# Altium footprint library LED Indication.PcbLib: 11 footprints
Each footprint in its own frame and in the unit in brackets; x right, y up, seen from the top. Pads: shape width x height; smd on the part's side, far side on the other; paste and mask are expansions set on the pad; w line width, h text height; cw(c..) or ccw(c..) is an arc to the next point about the centre after c.
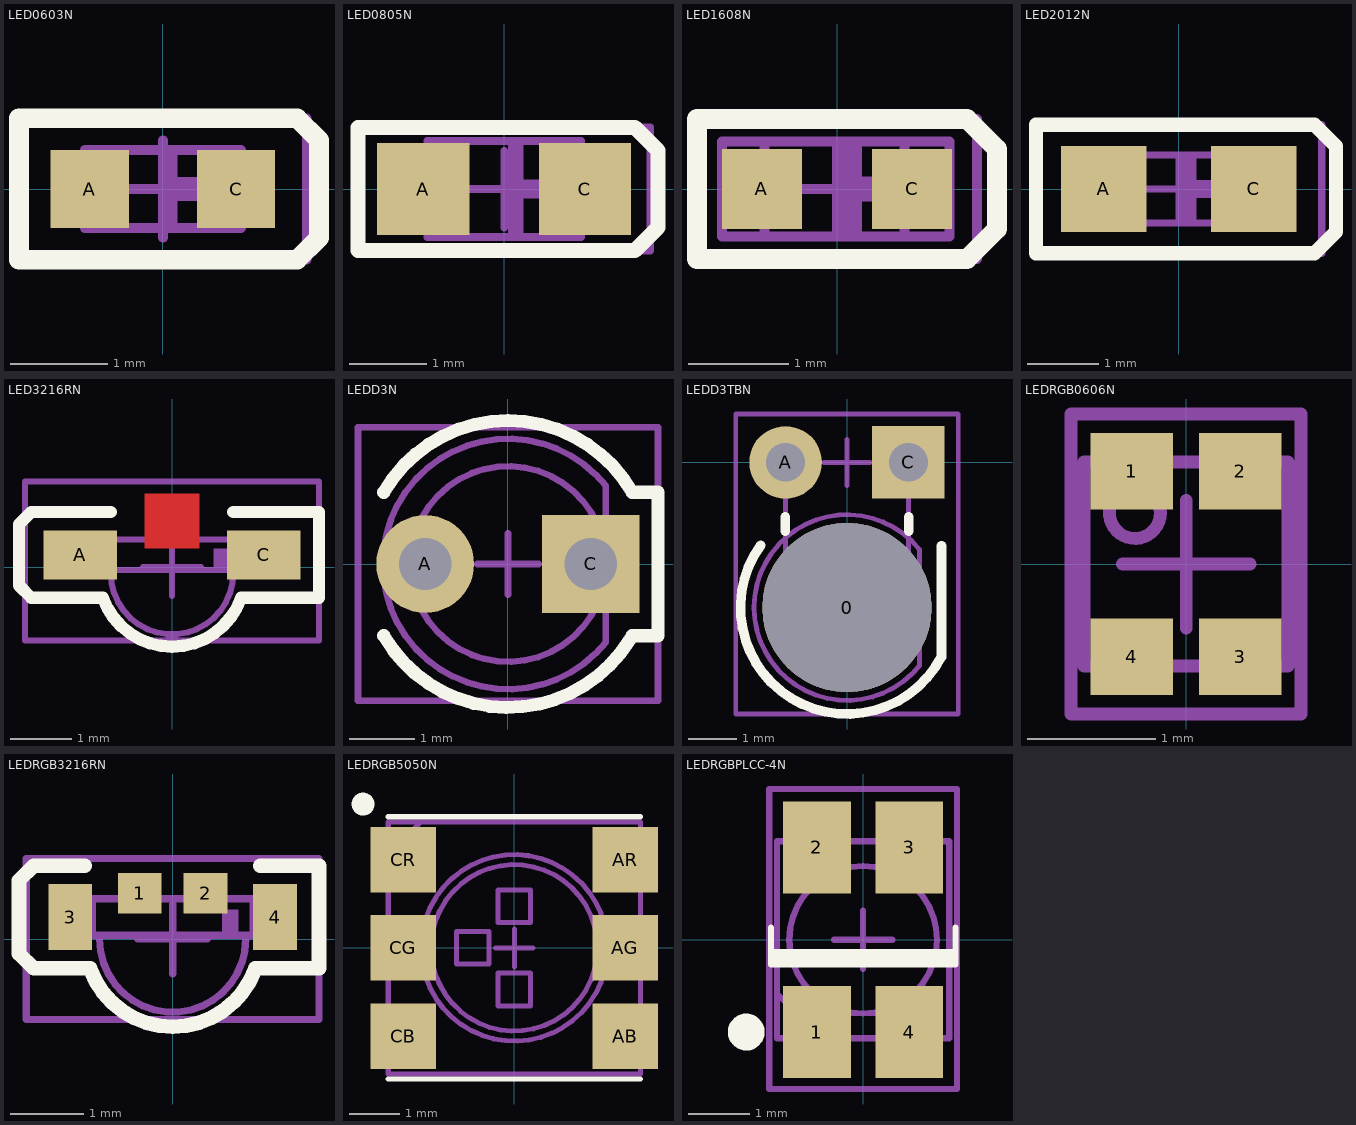
[diagram p0: the footprints below, top view; thin cyan lines are the x and y axes]

## LED0603N [mm]
height 1
pads (2):
  rect 0.8x0.8 smd: A(-0.75,0) C(0.75,0)
Top Overlay:
  lines w0.2: -1.475,-0.725 -1.475,0.725 1.375,0.725 1.6,0.5 1.6,-0.5 1.375,-0.725 -1.475,-0.725
Top Package:
  region: 0.15,0.425 -0.05,0.425 -0.05,-0.425 0.15,-0.425
  region: 0.375,0.125 0.15,0.125 0.15,-0.125 0.375,-0.125
  lines w0.1: -0.525,-0.4 -0.525,0.4 ; 0.525,-0.4 0.525,0.4 ; -0.8,-0.4 0.8,-0.4 0.8,0.4 -0.8,0.4 -0.8,-0.4
Top Border:
  lines w0.1: -0.498,-0.001 0.502,-0.001 ; 0.002,-0.501 0.002,0.499 ; -1.475,-0.725 1.475,-0.725 1.475,0.725 -1.475,0.725 -1.475,-0.725
3D body "User Library-LED SMD0805.stp": height 0.85, standoff 0.01, extent -1.031,-0.45 1.031,0.456

## LED0805N [mm]
height 1
pads (2):
  rect 1.2x1.2 smd: A(-1.05,0) C(1.05,0)
Top Overlay:
  lines w0.2: -1.9,-0.8 -1.9,0.8 1.7,0.8 2,0.5 2,-0.5 1.7,-0.8 -1.9,-0.8
Top Package:
  region: 0.475,0.125 0.25,0.125 0.25,-0.125 0.475,-0.125
  region: 0.25,0.625 0.05,0.625 0.05,-0.625 0.25,-0.625
  lines w0.1: -0.625,-0.625 -0.625,0.625 ; 0.675,-0.625 0.675,0.625 ; -1,-0.625 1,-0.625 1,0.625 -1,0.625 -1,-0.625
Top Border:
  lines w0.1: -0.498,-0.001 0.502,-0.001 ; 0.002,-0.501 0.002,0.499 ; -1.9,-0.8 1.9,-0.8 1.9,0.8 -1.9,0.8 -1.9,-0.8
3D body "User Library-LED SMD0805.step": height 0.85, standoff 0.01, extent -1.041,-0.436 1.021,0.47

## LED1608N [mm] "LED Indication, Body 1.6x0.8mm"
height 0.9
pads (2):
  rect 0.8x0.8 smd: A(-0.75,0) C(0.75,0)
Top Overlay:
  lines w0.2: -1.4,-0.7 -1.4,0.7 1.3,0.7 1.6,0.4 1.6,-0.4 1.3,-0.7 -1.4,-0.7
Top Package:
  region: 0.25,0.45 0.05,0.45 0.05,-0.475 0.25,-0.475
  region: 0.475,0.125 0.25,0.125 0.25,-0.125 0.475,-0.125
  lines w0.1: -0.725,-0.475 -0.725,0.475 ; 0.675,-0.475 0.675,0.475 ; -1.15,-0.475 -1.15,0.475 1.125,0.475 1.125,-0.475 -1.15,-0.475
Top Border:
  lines w0.1: -0.475,0 0.475,0 ; 0,-0.475 0,0.475 ; -1.4,-0.7 -1.4,0.7 1.4,0.7 1.4,-0.7 -1.4,-0.7
3D body "LED SMD0603.step": height 0.68, standoff 0, extent -0.808,-0.368 0.842,0.357

## LED2012N [mm] "LED Indication, Body 2.0x1.2mm, Green color"
height 0.9
pads (2):
  rect 1.2x1.2 smd: A(-1.05,0) C(1.05,0)
Top Overlay:
  lines w0.2: -2,-0.9 -2,0.9 1.9,0.9 2.2,0.6 2.2,-0.6 1.9,-0.9 -2,-0.9
Top Package:
  region: 0.25,0.45 0.05,0.45 0.05,-0.475 0.25,-0.475
  region: 0.475,0.125 0.25,0.125 0.25,-0.125 0.475,-0.125
  lines w0.1: -0.725,-0.475 -0.725,0.475 ; 0.675,-0.475 0.675,0.475 ; -1.15,-0.475 -1.15,0.475 1.125,0.475 1.125,-0.475 -1.15,-0.475
Top Border:
  lines w0.1: -0.475,0 0.475,0 ; 0,-0.475 0,0.475 ; -2,-0.9 -2,0.9 2,0.9 2,-0.9 -2,-0.9
3D body "LED2012.step": height 0.85, standoff 0.01, extent -1.031,-0.456 1.031,0.45

## LED3216RN [mm] "LED Indication, Body 3.2x1.6mm, Right Angle"
height 1
pads (2):
  rect 1.2x0.8 smd: A(-1.5,0.2) C(1.5,0.2)
Top Layer:
  rectangle: -0.45,0.3 0.45,1.2
Top Overlay:
  lines w0.2: -1.128,-0.51 ccw(c0,-0.1) 1.128,-0.51 ; -1.128,-0.5 -2.3,-0.5 -2.5,-0.3 -2.5,0.7 -2.3,0.9 -1,0.9 ; 1,0.9 2.4,0.9 2.4,-0.5 1.128,-0.5
Top Package:
  region: 0.9,0.3 0.675,0.3 0.675,-0.05 0.9,-0.05
  lines w0.1: -1.1,-0.05 -1.1,0.45 ; -1,-0.1 ccw(c0,-0.1) 1,-0.1 ; 1.1,-0.05 1.1,0.45 ; -1.6,-0.05 1.6,-0.05 1.6,0.45 -1.6,0.45 -1.6,-0.05
Top Border:
  lines w0.1: -0.475,0 0.475,0 ; 0,-0.475 0,0.475 ; -2.4,-1.2 2.4,-1.2 2.4,1.4 -2.4,1.4 -2.4,-1.2
3D body "LED 3216 RA Lense.stp": height 1, standoff 0, extent -1,-1 1,0
3D body "LED 3216 RA Base.stp": height 1.01, standoff -0.01, extent -1.61,-0.11 1.61,0.45

## LEDD3N [mm] "LED Indication, Body TH D3 4.0x3.5mm"
height 6.25
pads (2):
  round 1.5 hole 0.8: A(-1.27,0)
  rect 1.5x1.5 hole 0.8: C(1.27,0)
Top Overlay:
  lines w0.2: -1.905,-1.1 ccw(c0,0) 1.877,-1.147 ; -1.905,1.1 cw(c0,0) 1.905,1.1 2.3,1.1 2.3,-1.1 1.905,-1.1
Top Package:
  circle w0.1: c-1.27,0 r0.27
  circle w0.1: c1.27,0 r0.27
  circle w0.1: c0,0 r1.5
  lines w0.1: 1.5,-1.2 1.5,1.2 ; 1.499,-1.199 cw(c0,0) 1.499,1.199
Top Border:
  lines w0.1: -0.475,0 0.475,0 ; 0,-0.475 0,0.475 ; -2.3,-2.1 -2.3,2.1 2.3,2.1 2.3,-2.1 -2.3,-2.1
3D body "LEDD3-leads.stp": height 2.1, standoff -2, extent -1.52,-0.716 1.47,0.7
3D body "LEDD3-lens.stp": height 5.5, standoff 0, extent -1.925,-1.906 1.575,1.889

## LEDD3TBN [mm] "LED Indication, Body TH Throad board D3 4.0x3.5mm"
height 6.25
pads (3):
  round 3.5 hole 3.5 unplated: 0(0,-3)
  round 1.5 hole 0.8: A(-1.27,0)
  rect 1.5x1.5 hole 0.8: C(1.27,0)
Top Overlay:
  lines w0.2: -1.783,-1.712 ccw(c0,-3) 1.947,-4.024 ; -1.275,-1.425 -1.275,-1.125 ; 1.275,-1.425 1.275,-1.125 ; 1.952,-4.024 1.952,-1.725
Top Package:
  circle w0.1: c-1.27,0 r0.27
  circle w0.1: c1.27,0 r0.27
  circle w0.1: c0,-3 r1.5
  lines w0.1: -1.27,-3.073 -1.27,0 ; 1.27,-3.073 1.27,0 ; 1.499,-1.801 ccw(c0,-3) 1.499,-4.199 1.5,-1.8
Top Border:
  lines w0.1: -0.475,0 0.475,0 ; 0,-0.475 0,0.475 ; -2.3,-5.2 2.3,-5.2 2.3,1 -2.3,1 -2.3,-5.2
3D body "LEDD3-lens.stp": height 2.7, standoff -2.8, extent -1.75,-4.906 1.75,-1.111
3D body "LEDD3-throad_boardd_leads.stp": height 4.92, standoff -1.55, extent -1.495,-3.716 1.495,0.217

## LEDRGB0606N [mm] "Full color SMD chip LED"
height 0.35
pads (4):
  rect 0.65x0.6 smd: 1(-0.425,0.725) 2(0.425,0.725) 3(0.425,-0.725) 4(-0.425,-0.725)
Top Package:
  lines w0.1: -0.9,-1.175 -0.9,1.175 0.9,1.175 0.9,-1.175 -0.9,-1.175
Top Border:
  circle w0.1: c-0.4,0.4 r0.2
  lines w0.1: -0.498,-0.001 0.502,-0.001 ; 0.002,-0.501 0.002,0.499 ; -0.8,-0.8 -0.8,0.8 0.8,0.8 0.8,-0.8 -0.8,-0.8
3D body "User Library-LED SMD0805.stp": height 0.85, standoff 0.01, extent -0.01,-1.028 0.897,1.035
3D body "User Library-LED SMD0805.stp": height 0.85, standoff 0.01, extent -0.91,-1.028 -0.003,1.035

## LEDRGB3216RN [mm] "LED RGB Indication, Body 3.2x1.6mm, Right Angle"
height 1
pads (4):
  rect 0.6x0.55 smd: 1(-0.45,0.625) 2(0.45,0.625)
  rect 0.6x0.9 smd: 3(-1.4,0.3) 4(1.4,0.3)
Top Overlay:
  lines w0.2: -1.2,1 -1.9,1 -2.1,0.8 -2.1,-0.2 -1.9,-0.4 -1.128,-0.4 ; -1.128,-0.41 ccw(c0,0) 1.128,-0.41 ; 1.128,-0.4 2,-0.4 2,1 1.2,1
Top Package:
  region: 0.9,0.4 0.675,0.4 0.675,0.05 0.9,0.05
  lines w0.1: -1.1,0.05 -1.1,0.55 ; -1,0 ccw(c0,0) 1,0 ; 1.1,0.05 1.1,0.55 ; -1.6,0.05 1.6,0.05 1.6,0.55 -1.6,0.55 -1.6,0.05
Top Border:
  lines w0.1: -0.475,0 0.475,0 ; 0,-0.475 0,0.475 ; -2,-1.1 2,-1.1 2,1.1 -2,1.1 -2,-1.1
3D body "LED 3216 RA Lense.stp": height 1, standoff 0, extent -1,-0.9 1,0.1
3D body "LED 3216 RGB RA.stp": height 1.01, standoff -0.01, extent -1.61,-0.01 1.61,0.55

## LEDRGB5050N [mm]
height 1.6
pads (6):
  rect 1.3x1.3 smd: AB(2.2,-1.75) AG(2.2,0) AR(2.2,1.75) CB(-2.2,-1.75) CG(-2.2,0) CR(-2.2,1.75)
Top Overlay:
  circle w0.254: c-3,2.85 r0.1
  lines w0.1: -2.5,-2.6 2.5,-2.6 ; -2.5,2.6 2.5,2.6
Top Package:
  circle w0.1: c0,0 r1.85
  circle w0.1: c0,0 r1.65
  lines w0.1: -2.5,-2.2 -2.725,-2.2 -2.725,-1.3 -2.5,-1.3 ; -2.5,1.3 -2.725,1.3 -2.725,2.2 -2.5,2.2 ; -2.5,1.85 -1.875,2.475 ; 2.5,-2.2 2.725,-2.2 2.725,-1.3 2.5,-1.3 ; 2.5,-0.45 2.725,-0.45 2.725,0.45 2.5,0.45 ; 2.5,1.3 2.725,1.3 2.725,2.2 2.5,2.2 ; -2.725,-0.45 -2.725,0.45 ; -2.725,-0.45 -2.5,-0.45 -2.725,-0.45 ; -2.725,-0.45 -2.725,0.45 ; -2.725,0.45 -2.5,0.45 -2.725,0.45 ; -2.5,-2.5 -2.5,2.5 2.5,2.5 2.5,-2.5 -2.5,-2.5 ; -1.15,-0.325 -0.5,-0.325 -0.5,0.325 -1.15,0.325 -1.15,-0.325 ; -0.325,-1.15 0.325,-1.15 0.325,-0.5 -0.325,-0.5 -0.325,-1.15 ; -0.325,0.5 -0.325,1.15 0.325,1.15 0.325,0.5 -0.325,0.5
  text "R" at -0.125,0.625 h0.4
  text "G" at -0.975,-0.2 h0.4
  text "B" at -0.125,-1.025 h0.4
Top Border:
  lines w0.1: -0.375,0 0.375,0 ; 0,-0.375 0,0.375 ; -2.5,-2.5 -2.5,2.5 2.5,2.5 2.5,-2.5 -2.5,-2.5
3D body "User Library-OF-SMD5060RGB.step": height 2, standoff 0, extent -2.7,-2.5 2.7,2.5

## LEDRGBPLCC-4N [mm] "LED RGB Indication, Body 1.6x0.8mm"
height 1.9
pads (4):
  rect 1.1x1.5 smd: 1(-0.75,-1.5) 2(-0.75,1.5) 3(0.75,1.5) 4(0.75,-1.5)
Top Overlay:
  circle w0.3: c-1.9,-1.5 r0.15
  rectangle: -1.5,-0.4 1.5,-0.2
  lines w0.1: -1.5,-0.2 1.5,-0.2 ; -1.5,0.2 -1.5,-0.4 1.5,-0.4 1.5,0.2
Top Package:
  circle w0.1: c0,0 r1.2
  lines w0.1: -1.4,-0.875 -0.7,-1.575 ; -1.1,-1.625 -1.1,-1.775 -0.4,-1.775 -0.4,-1.625 ; -1.1,1.625 -1.1,1.775 -0.4,1.775 -0.4,1.625 ; 0.4,-1.625 0.4,-1.775 1.1,-1.775 1.1,-1.625 ; 0.4,1.625 0.4,1.775 1.1,1.775 1.1,1.625 ; -1.4,-1.6 -1.4,1.6 1.4,1.6 1.4,-1.6 -1.4,-1.6
Top Border:
  lines w0.1: -0.475,0 0.475,0 ; 0,-0.475 0,0.475 ; -1.525,-2.425 -1.525,2.45 1.525,2.45 1.525,-2.425 -1.525,-2.425
3D body "PLCC-4.step": height 1.9, standoff 0, extent -1.388,-1.75 1.412,1.75